# EAGLE library part BQ25883RGER (library BQ25883RGER)
Battery Management BQ25883RGE Source: Datasheet <http://www.ti.com/lit/ds/symlink/bq25883.pdf?HQS=TI-null-null-mousermode-df-pf-null-wwe&DCM=yes&ref_url=https://www.mouser.co.uk/>
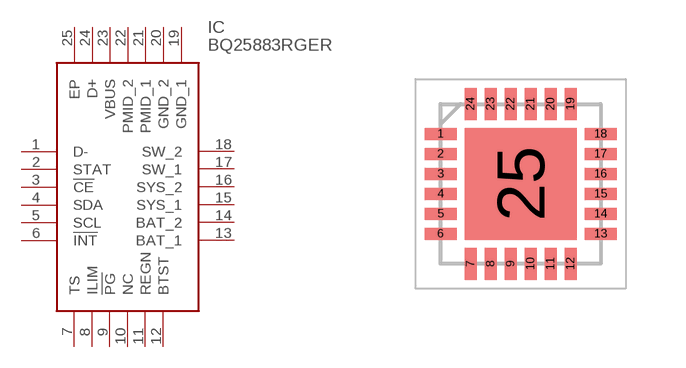
[diagram p0: symbol with the pads of QFN50P400X400X100-25N; footprint QFN50P400X400X100-25N]

Designator prefix IC

## BQ25883RGER (Description: Battery Management BQ25883RGE; Height: 1mm; Manufacturer_Name: Texas Instruments; Manufacturer_Part_Number: BQ25883RGER; Mouser_Part_Number: 595-BQ25883RGER; Mouser_Price-Stock: https://www.mouser.co.uk/ProductDetail/Texas-Instruments/BQ25883RGER?qs=EBDBlbfErPxzP5IdwHZrfw%3D%3D)  [QFN50P400X400X100-25N]
1  D-
2  STAT
3  !CE
4  SDA
5  SCL
6  !INT
7  TS
8  ILIM
9  !PG
10  NC  nc
11  REGN
12  BTST
13  BAT_1
14  BAT_2
15  SYS_1
16  SYS_2
17  SW_1
18  SW_2
19  GND_1
20  GND_2
21  PMID_1
22  PMID_2
23  VBUS
24  D+
25  EP

## Footprint QFN50P400X400X100-25N (pad centres in mm)
RGE0024
smd 0.8 x 0.3: 1 -2,1.25; 2 -2,0.75; 3 -2,0.25; 4 -2,-0.25; 5 -2,-0.75; 6 -2,-1.25; 13 2,-1.25; 14 2,-0.75; 15 2,-0.25; 16 2,0.25; 17 2,0.75; 18 2,1.25
smd 0.3 x 0.8: 7 -1.25,-2; 8 -0.75,-2; 9 -0.25,-2; 10 0.25,-2; 11 0.75,-2; 12 1.25,-2; 19 1.25,2; 20 0.75,2; 21 0.25,2; 22 -0.25,2; 23 -0.75,2; 24 -1.25,2
smd 2.8 x 2.8: 25 0,0